# Altium footprint library tps7a3301qfn.PcbLib: 1 footprints
Each footprint in its own frame and in the unit in brackets; x right, y up, seen from the top. Pads: shape width x height; smd on the part's side, far side on the other; paste and mask are expansions set on the pad; w line width, h text height; cw(c..) or ccw(c..) is an arc to the next point about the centre after c.
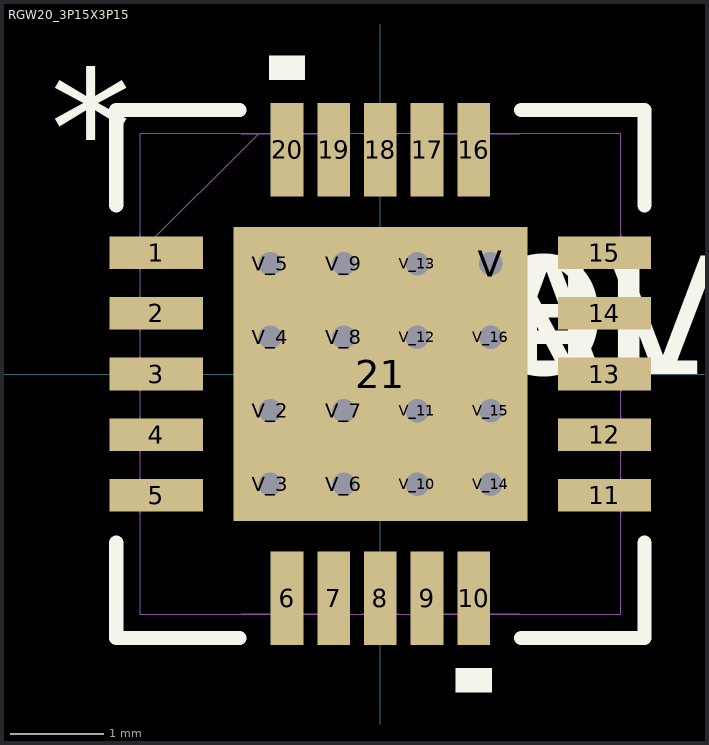
[diagram p0: the footprint, top view; thin cyan lines are the x and y axes]

## RGW20_3P15X3P15 [mil]
pads (37):
  rect 39.37x13.78 smd paste-6.89: 1(-94.49,51.18) 2(-94.49,25.59) 3(-94.49,0) 4(-94.49,-25.59) 5(-94.49,-51.18) 11(94.49,-51.18) 12(94.49,-25.59) 13(94.49,0) 14(94.49,25.59) 15(94.49,51.18)
  rect 13.78x39.37 smd paste-6.89: 6(-39.38,-94.49) 7(-19.69,-94.49) 8(0,-94.49) 9(19.69,-94.49) 10(39.38,-94.49) 16(39.38,94.49) 17(19.69,94.49) 18(0,94.49) 19(-19.69,94.49) 20(-39.38,94.49)
  rect 124.02x124.02 smd paste-62.01: 21(0,0)
  round 20 / inner round 60 / far side round 20 hole 10: V(46.5,46.5) V_2(-46.5,-15.5) V_3(-46.5,-46.5) V_4(-46.5,15.5) V_5(-46.5,46.5) V_6(-15.5,-46.5) V_7(-15.5,-15.5) V_8(-15.5,15.5) V_9(-15.5,46.5) V_10(15.5,-46.5) V_11(15.5,-15.5) V_12(15.5,15.5) V_13(15.5,46.5) V_14(46.5,-46.5) V_15(46.5,-15.5) V_16(46.5,15.5)
Top Overlay:
  region: 46.88,-124.17 31.88,-124.17 31.88,-134.17 46.88,-134.17
  region: -31.88,124.17 -46.88,124.17 -46.88,134.17 -31.88,134.17
  lines w6: -111.38,-71.17 -111.38,-111.38 -59.37,-111.38 ; -111.38,71.17 -111.38,111.38 -59.37,111.38 ; 59.37,-111.38 111.38,-111.38 111.38,-71.17 ; 59.37,111.38 111.38,111.38 111.38,71.17
  text "*" at -139.17,78.98 h50
  text "PN" at 0,0 h50
  text "DEV" at 0,0 h50
  text "VAL" at 0,0 h50
  text "TOL" at 0,0 h50
Top Paste:
  drawing of 45 lines, arcs and shapes, not listed
Top Solder:
  region: -72.06,60.81 -116.91,60.81 -116.91,41.55 -72.06,41.55
  region: -72.06,35.22 -116.91,35.22 -116.91,15.96 -72.06,15.96
  region: -72.06,9.63 -116.91,9.63 -116.91,-9.63 -72.06,-9.63
  region: -72.06,-15.96 -116.91,-15.96 -116.91,-35.22 -72.06,-35.22
  region: -72.06,-41.55 -116.91,-41.55 -116.91,-60.81 -72.06,-60.81
  region: -29.75,-72.06 -49.01,-72.06 -49.01,-116.91 -29.75,-116.91
  region: -10.06,-72.06 -29.32,-72.06 -29.32,-116.91 -10.06,-116.91
  region: 9.63,-72.06 -9.63,-72.06 -9.63,-116.91 9.63,-116.91
  region: 29.32,-72.06 10.06,-72.06 10.06,-116.91 29.32,-116.91
  region: 49.01,-72.06 29.75,-72.06 29.75,-116.91 49.01,-116.91
  region: 116.91,-41.55 72.06,-41.55 72.06,-60.81 116.91,-60.81
  region: 116.91,-15.96 72.06,-15.96 72.06,-35.22 116.91,-35.22
  region: 116.91,9.63 72.06,9.63 72.06,-9.63 116.91,-9.63
  region: 116.91,35.22 72.06,35.22 72.06,15.96 116.91,15.96
  region: 116.91,60.81 72.06,60.81 72.06,41.55 116.91,41.55
  region: 49.01,116.91 29.75,116.91 29.75,72.06 49.01,72.06
  region: 29.32,116.91 10.06,116.91 10.06,72.06 29.32,72.06
  region: 9.63,116.91 -9.63,116.91 -9.63,72.06 9.63,72.06
  region: -10.06,116.91 -29.32,116.91 -29.32,72.06 -10.06,72.06
  region: -29.75,116.91 -49.01,116.91 -49.01,72.06 -29.75,72.06
  region: -64.51,54.37 -64.51,64.51 64.51,64.51 64.51,54.37
  region: -64.51,23.37 -64.51,38.63 64.51,38.63 64.51,23.37
  region: -64.51,-7.63 -64.51,7.63 64.51,7.63 64.51,-7.63
  region: -64.51,-38.63 -64.51,-23.37 64.51,-23.37 64.51,-38.63
  region: -64.51,-64.51 -64.51,-54.37 64.51,-54.37 64.51,-64.51
  region: -64.51,-64.51 -64.51,64.51 -54.37,64.51 -54.37,-64.51
  region: -23.37,-64.51 -23.37,64.51 -38.63,64.51 -38.63,-64.51
  region: 7.63,-64.51 7.63,64.51 -7.63,64.51 -7.63,-64.51
  region: 38.63,-64.51 38.63,64.51 23.37,64.51 23.37,-64.51
  region: 54.37,-64.51 54.37,64.51 64.51,64.51 64.51,-64.51
Mechanical 1:
  lines w0: -101.38,51.38 -51.38,101.38 ; -101.38,-58.66 -101.38,-43.7 ; -101.38,-58.66 -101.38,-43.7 ; -101.38,-58.66 -101.38,-58.66 ; -101.38,-43.7 -101.38,-43.7 ; -101.38,-33.07 -101.38,-18.11 ; -101.38,-33.07 -101.38,-18.11 ; -101.38,-33.07 -101.38,-33.07 ; -101.38,-18.11 -101.38,-18.11 ; -101.38,-7.48 -101.38,7.48 ; -101.38,-7.48 -101.38,7.48 ; -101.38,-7.48 -101.38,-7.48 ; -101.38,7.48 -101.38,7.48 ; -101.38,18.11 -101.38,33.07 ; -101.38,18.11 -101.38,33.07 ; -101.38,18.11 -101.38,18.11 ; -101.38,33.07 -101.38,33.07 ; -101.38,43.7 -101.38,58.66 ; -101.38,43.7 -101.38,58.66 ; -101.38,43.7 -101.38,43.7 ; -101.38,58.66 -101.38,58.66 ; -58.66,-101.38 -43.7,-101.38 ; -58.66,-101.38 -58.66,-101.38 ; -58.66,-101.38 -43.7,-101.38 ; -58.66,101.38 -43.7,101.38 ; -58.66,101.38 -43.7,101.38 ; -58.66,101.38 -58.66,101.38 ; -43.7,-101.38 -43.7,-101.38 ; -43.7,101.38 -43.7,101.38 ; -33.07,-101.38 -18.11,-101.38 ; -33.07,-101.38 -33.07,-101.38 ; -33.07,-101.38 -18.11,-101.38 ; -33.07,101.38 -18.11,101.38 ; -33.07,101.38 -18.11,101.38 ; -33.07,101.38 -33.07,101.38 ; -18.11,-101.38 -18.11,-101.38 ; -18.11,101.38 -18.11,101.38 ; -7.48,-101.38 7.48,-101.38 ; -7.48,-101.38 -7.48,-101.38 ; -7.48,-101.38 7.48,-101.38 ; -7.48,101.38 7.48,101.38 ; -7.48,101.38 7.48,101.38 ; -7.48,101.38 -7.48,101.38 ; 7.48,-101.38 7.48,-101.38 ; 7.48,101.38 7.48,101.38 ; 18.11,-101.38 33.07,-101.38 ; 18.11,-101.38 18.11,-101.38 ; 18.11,-101.38 33.07,-101.38 ; 18.11,101.38 33.07,101.38 ; 18.11,101.38 33.07,101.38 ; 18.11,101.38 18.11,101.38 ; 33.07,-101.38 33.07,-101.38 ; 33.07,101.38 33.07,101.38 ; 43.7,-101.38 58.66,-101.38 ; 43.7,-101.38 43.7,-101.38 ; 43.7,-101.38 58.66,-101.38 ; 43.7,101.38 58.66,101.38 ; 43.7,101.38 58.66,101.38 ; 43.7,101.38 43.7,101.38 ; 58.66,-101.38 58.66,-101.38 ; 58.66,101.38 58.66,101.38 ; 101.38,-58.66 101.38,-43.7 ; 101.38,-58.66 101.38,-58.66 ; 101.38,-58.66 101.38,-43.7 ; 101.38,-43.7 101.38,-43.7 ; 101.38,-33.07 101.38,-18.11 ; 101.38,-33.07 101.38,-33.07 ; 101.38,-33.07 101.38,-18.11 ; 101.38,-18.11 101.38,-18.11 ; 101.38,-7.48 101.38,7.48 ; 101.38,-7.48 101.38,-7.48 ; 101.38,-7.48 101.38,7.48 ; 101.38,7.48 101.38,7.48 ; 101.38,18.11 101.38,33.07 ; 101.38,18.11 101.38,18.11 ; 101.38,18.11 101.38,33.07 ; 101.38,33.07 101.38,33.07 ; 101.38,43.7 101.38,58.66 ; 101.38,43.7 101.38,43.7 ; 101.38,43.7 101.38,58.66 ; 101.38,58.66 101.38,58.66 ; -101.38,-101.38 101.38,-101.38 101.38,101.38 -101.38,101.38 -101.38,-101.38
  text "*" at -139.17,78.98 h50
  text "RefDes2" at 0,0 h50